# Altium integrated library STM8S003F3P6.IntLib: 1 symbol
Pins are listed as number, name and electrical type; pins without a type are passive.

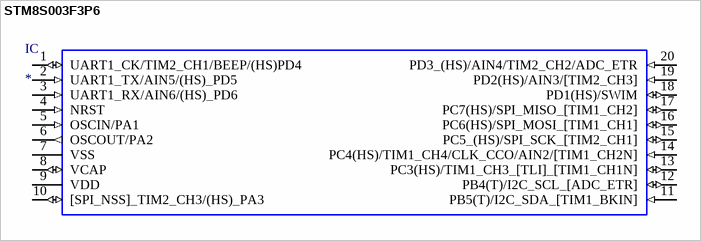
[diagram p0: symbol STM8S003F3P6]

## STM8S003F3P6
designator IC
STM8 STM8S Microcontroller IC 8-Bit 16MHz 8KB _8K x 8_ FLASH 20-TSSOP; MF: STMicroelectronics; MP: STM8S003F3P6; Value: *; Package: TSSOP-20 STMicroelectronics; Price: None; Availability: Unavailable; SnapEDA_Link: https://www.snapeda.com/parts/STM8S003F3P6/STMicroelectronics/view-part/47650/?ref=snap
footprint SOP65P640X120-20N
pins: 1 UART1_CK/TIM2_CH1/BEEP/(HS)PD4 (io), 2 UART1_TX/AIN5/(HS)_PD5 (in), 3 UART1_RX/AIN6/(HS)_PD6 (in), 4 NRST (in), 5 OSCIN/PA1 (in), 6 OSCOUT/PA2 (out), 7 VSS (power), 8 VCAP (io), 9 VDD (power), 10 [SPI_NSS]_TIM2_CH3/(HS)_PA3 (io), 11 PB5(T)/I2C_SDA_[TIM1_BKIN] (in), 12 PB4(T)/I2C_SCL_[ADC_ETR] (io), 13 PC3(HS)/TIM1_CH3_[TLI]_[TIM1_CH1N] (io), 14 PC4(HS)/TIM1_CH4/CLK_CCO/AIN2/[TIM1_CH2N] (in), 15 PC5_(HS)/SPI_SCK_[TIM2_CH1] (io), 16 PC6(HS)/SPI_MOSI_[TIM1_CH1] (io), 17 PC7(HS)/SPI_MISO_[TIM1_CH2] (io), 18 PD1(HS)/SWIM (io), 19 PD2(HS)/AIN3/[TIM2_CH3] (in), 20 PD3_(HS)/AIN4/TIM2_CH2/ADC_ETR (in)